# Altium footprint library SAMTEC_TS-111-T-A-1.PcbLib: 1 footprints
Each footprint in its own frame and in the unit in brackets; x right, y up, seen from the top. Pads: shape width x height; smd on the part's side, far side on the other; paste and mask are expansions set on the pad; w line width, h text height; cw(c..) or ccw(c..) is an arc to the next point about the centre after c.
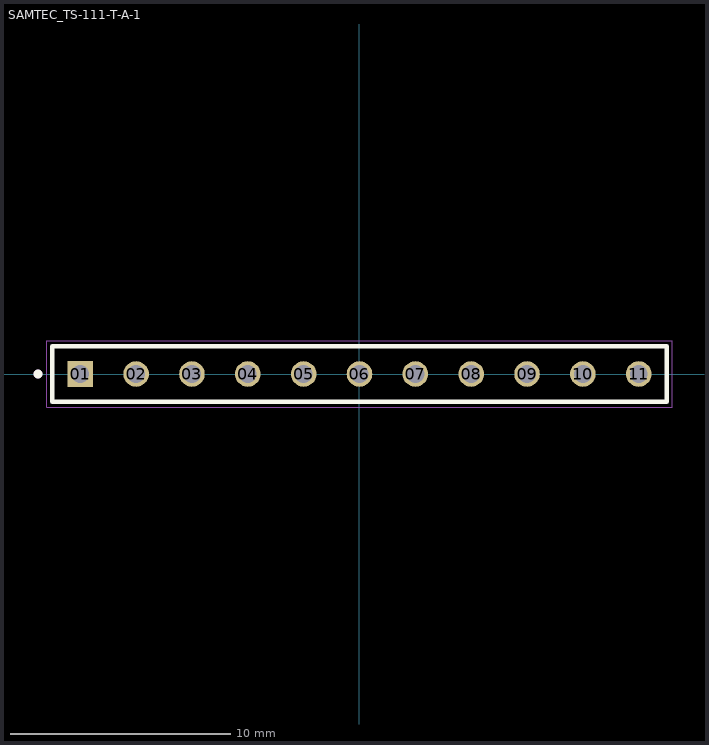
[diagram p0: the footprint, top view; thin cyan lines are the x and y axes]

## SAMTEC_TS-111-T-A-1 [mil]
pads (11):
  rect 45.78x45.78 / inner round 45.78 / far side rect 45.78x45.78 hole 32: 01(-500,0)
  round 45.78 hole 32: 02(-400,0) 03(-300,0) 04(-200,0) 05(-100,0) 06(0,0) 07(100,0) 08(200,0) 09(300,0) 10(400,0) 11(500,0)
Top Overlay:
  circle w7.87: c-575.59,0 r3.94
  lines w7.87: -550,-50 -550,50 550,50 550,-50 -550,-50
Mechanical 13:
  circle w7.87: c-575.59,0 r3.94
  lines w3.94: -550,-50 -550,50 ; -550,-50 550,-50 ; -550,-50 -550,50 ; -550,50 550,50 ; -550,50 550,50 ; 550,-50 550,50 ; 550,-50 550,50
Mechanical 15:
  lines w1.97: -559.84,-59.84 -559.84,59.84 559.84,59.84 559.84,-59.84 -559.84,-59.84